# Altium integrated library NSC Amplifier.IntLib: 737 symbols (part 5 of 19)
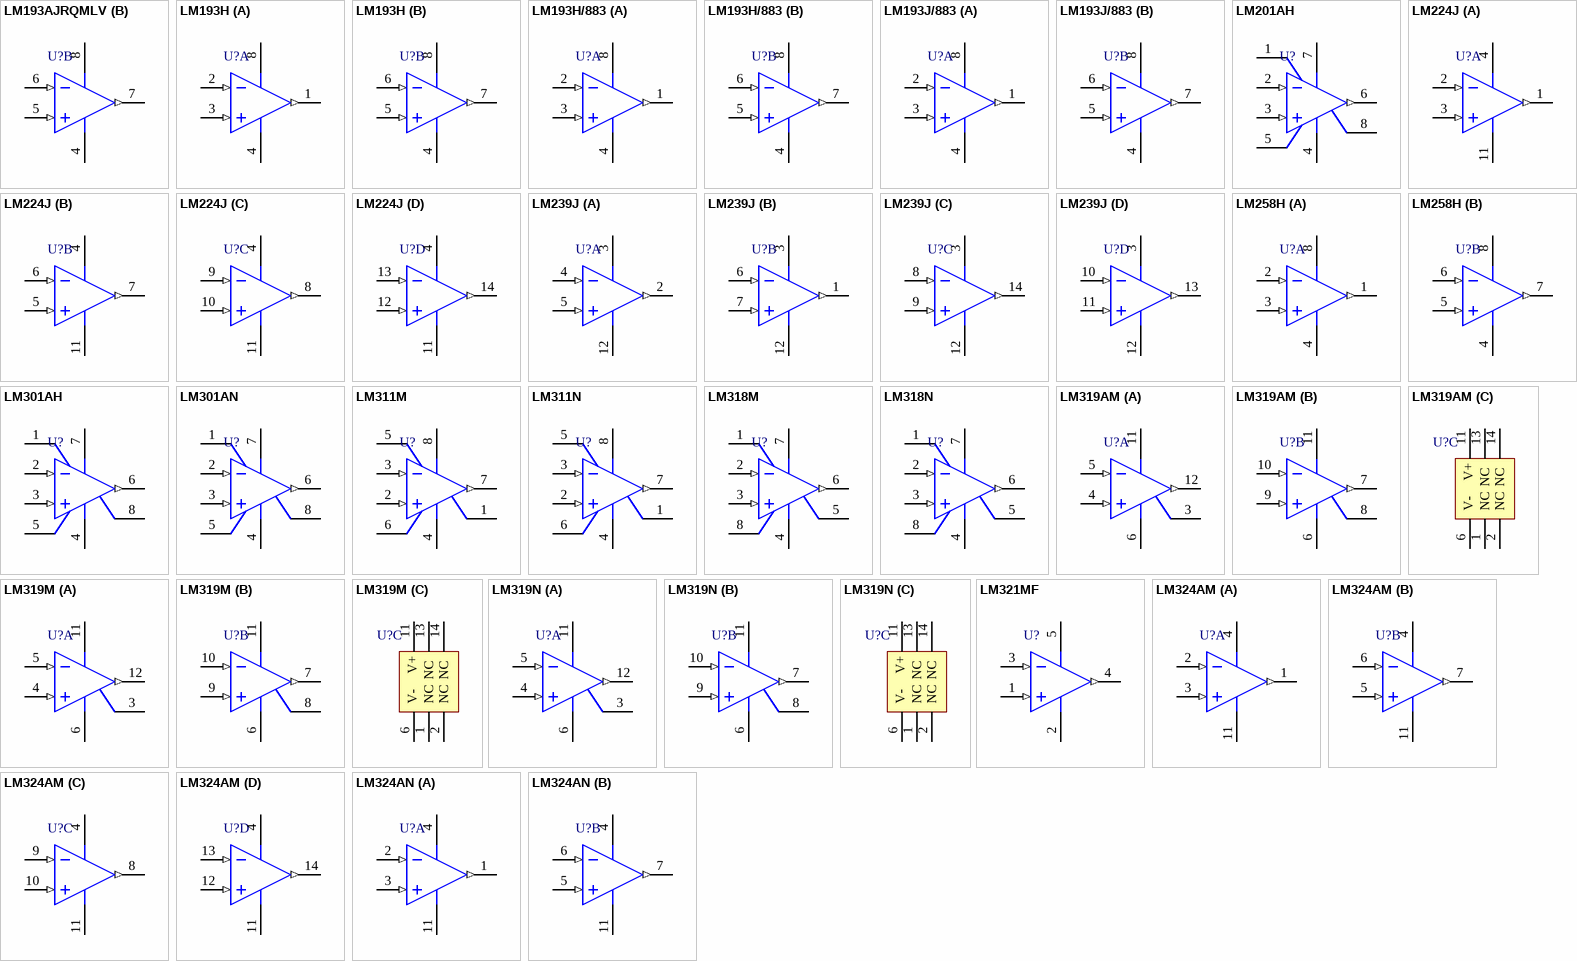
[diagram p43: symbols LM193AJRQMLV to LM324AN]

## LM319AM
designator U?
High Speed Dual Comparator; PartNumber: LM319AM; Manufacturer: National Semiconductor; CompType: Amplifiers; PackageTopMarking: NSUZXYTT*LM319AM; PowerWise: N; Published: 4-Dec-2008; DatasheetVersion: Aug-2000; PackageVersion: revJ, Jan-1996; PackageReference: M14A; Publisher: Altium Limited; PackageDescription: Molded Package S.O., .150in Wide, 14 Lead; RoHS: O; PinCount: 14; DigiKeyPartNumber: LM319AMX-ND; Code_JEDEC: MS-012AB; Code_IPC: SOIC127P600-14; ComponentLink1Description: LM319 Datasheet; ComponentLink1URL: http://www.national.com/ds/LM/LM319.pdf; ComponentLink2Description: LM319 Web Page; ComponentLink2URL: http://www.national.com/pf/LM/LM319.html; ComponentLink3Description: M14A Package Page; ComponentLink3URL: http://www.national.com/packaging/folders/m14a.html
footprint M14A_N (SOIC, 14-Leads, Body 8.6x3.9mm, Pitch 1.27mm, IPC Medium Density)
footprint M14A_L (SOIC, 14-Leads, Body 8.6x3.9mm, Pitch 1.27mm, IPC High Density)
footprint M14A_M (SOIC, 14-Leads, Body 8.6x3.9mm, Pitch 1.27mm, IPC Low Density)
pins on every part: 6 V- (power), 11 V+ (power)
part A pins: 3 GND1 (power), 4 IN1+ (in), 5 IN1- (in), 12 OUT1 (out)
part B pins: 7 OUT2 (out), 8 GND2 (power), 9 IN2+ (in), 10 IN2- (in)
part C pins: 1 NC, 2 NC, 13 NC, 14 NC

## LM319M
designator U?
High Speed Dual Comparator; PartNumber: LM319M; Manufacturer: National Semiconductor; CompType: Amplifiers; PackageTopMarking: NSUZXYTT*LM319M; PowerWise: N; Published: 4-Dec-2008; DatasheetVersion: Aug-2000; PackageVersion: revJ, Jan-1996; PackageReference: M14A; Publisher: Altium Limited; PackageDescription: Molded Package S.O., .150in Wide, 14 Lead; RoHS: O; PinCount: 14; DigiKeyPartNumber: LM319M-ND; Code_JEDEC: MS-012AB; Code_IPC: SOIC127P600-14; ComponentLink1Description: LM319 Datasheet; ComponentLink1URL: http://www.national.com/ds/LM/LM319.pdf; ComponentLink2Description: LM319 Web Page; ComponentLink2URL: http://www.national.com/pf/LM/LM319.html; ComponentLink3Description: M14A Package Page; ComponentLink3URL: http://www.national.com/packaging/folders/m14a.html
footprint M14A_N (SOIC, 14-Leads, Body 8.6x3.9mm, Pitch 1.27mm, IPC Medium Density)
footprint M14A_L (SOIC, 14-Leads, Body 8.6x3.9mm, Pitch 1.27mm, IPC High Density)
footprint M14A_M (SOIC, 14-Leads, Body 8.6x3.9mm, Pitch 1.27mm, IPC Low Density)
pins on every part: 6 V- (power), 11 V+ (power)
part A pins: 3 GND1 (power), 4 IN1+ (in), 5 IN1- (in), 12 OUT1 (out)
part B pins: 7 OUT2 (out), 8 GND2 (power), 9 IN2+ (in), 10 IN2- (in)
part C pins: 1 NC, 2 NC, 13 NC, 14 NC

## LM319N
designator U?
High Speed Dual Comparator; PartNumber: LM319N; Manufacturer: National Semiconductor; CompType: Amplifiers; PackageTopMarking: NSUZXYYTTE#*LM319N; PowerWise: N; Published: 4-Dec-2008; DatasheetVersion: Aug-2000; PackageVersion: revG, May-2006; PackageReference: N14A; Publisher: Altium Limited; PackageDescription: MDIP, .750 x .250 x.130in, 14 Lead, .100in Pitch; RoHS: O; PinCount: 14; DigiKeyPartNumber: LM319NNS-ND; Code_JEDEC: MS-001-AA; ComponentLink1Description: LM319 Datasheet; ComponentLink1URL: http://www.national.com/ds/LM/LM319.pdf; ComponentLink2Description: LM319 Web Page; ComponentLink2URL: http://www.national.com/pf/LM/LM319.html; ComponentLink3Description: N14A Package Page; ComponentLink3URL: http://www.national.com/packaging/folders/n14a.html
footprint N14A (DIP, 14-Leads, Row Spacing 7.62mm, Pitch 2.54mm, Body 19.56x6.35mm)
pins on every part: 6 V- (power), 11 V+ (power)
part A pins: 3 GND1 (power), 4 IN1+ (in), 5 IN1- (in), 12 OUT1 (out)
part B pins: 7 OUT2 (out), 8 GND2 (power), 9 IN2+ (in), 10 IN2- (in)
part C pins: 1 NC, 2 NC, 13 NC, 14 NC

## LM321MF
designator U?
Low Power Single Op Amp; PartNumber: LM321MF; Manufacturer: National Semiconductor; CompType: Amplifiers; PackageTopMarking: A63A*XTT; PowerWise: N; Published: 4-Dec-2008; LatestRevisionDate: 13-Jan-2009; LatestRevisionNote: Sim Model Added.; DatasheetVersion: Apr-2001; PackageVersion: revD, Aug-2008; PackageReference: MF05A; Publisher: Altium Limited; PackageDescription: Molded SOT-23, .115 x .063 x .040 in Body, 5 Lead, .0375 in Pitch; RoHS: O; PinCount: 5; DigiKeyPartNumber: LM321MFCT-ND; Code_IPC: SOT23-5; ComponentLink1Description: LM321 Datasheet; ComponentLink1URL: http://www.national.com/ds/LM/LM321.pdf; ComponentLink2Description: LM321 Web Page; ComponentLink2URL: http://www.national.com/pf/LM/LM321.html; ComponentLink3Description: MF05A Package Page; ComponentLink3URL: http://www.national.com/packaging/folders/mf05a.html
footprint MF05A_N (SOT23, 5-Leads, Body 2.9x1.6mm, Pitch 0.95mm, Lead Span 2.8mm, IPC Medium Density)
footprint MF05A_L (SOT23, 5-Leads, Body 2.9x1.6mm, Pitch 0.95mm, Lead Span 2.8mm, IPC High Density)
footprint MF05A_M (SOT23, 5-Leads, Body 2.9x1.6mm, Pitch 0.95mm, Lead Span 2.8mm, IPC Low Density)
simulation model LM324 (SUBCKT)
pins: 1 IN+ (in), 2 V- (power), 3 IN- (in), 4 OUT (out), 5 V+ (power)

## LM324AM
designator U?
Low Power Quad Operational Amplifier; PartNumber: LM324AM; Manufacturer: National Semiconductor; CompType: Amplifiers; PackageTopMarking: NSUZXYTT*LM324AM; PowerWise: N; Published: 4-Dec-2008; LatestRevisionDate: 13-Jan-2009; LatestRevisionNote: Sim Model Added.; DatasheetVersion: Aug-2000; PackageVersion: revJ, Jan-1996; PackageReference: M14A; Publisher: Altium Limited; PackageDescription: Molded Package S.O., .150in Wide, 14 Lead; RoHS: O; PinCount: 14; DigiKeyPartNumber: LM324AMXCT-ND; Code_JEDEC: MS-012AB; Code_IPC: SOIC127P600-14; ComponentLink1Description: LM324 Datasheet; ComponentLink1URL: http://www.national.com/ds/LM/LM324.pdf; ComponentLink2Description: LM324 Web Page; ComponentLink2URL: http://www.national.com/pf/LM/LM324.html; ComponentLink3Description: M14A Package Page; ComponentLink3URL: http://www.national.com/packaging/folders/m14a.html
footprint M14A_N (SOIC, 14-Leads, Body 8.6x3.9mm, Pitch 1.27mm, IPC Medium Density)
footprint M14A_L (SOIC, 14-Leads, Body 8.6x3.9mm, Pitch 1.27mm, IPC High Density)
footprint M14A_M (SOIC, 14-Leads, Body 8.6x3.9mm, Pitch 1.27mm, IPC Low Density)
simulation model LM324 (SUBCKT)
pins on every part: 4 V+ (power), 11 GND (power)
part A pins: 1 OUT1 (out), 2 IN1- (in), 3 IN1+ (in)
part B pins: 5 IN2+ (in), 6 IN2- (in), 7 OUT2 (out)
part C pins: 8 OUT3 (out), 9 IN3- (in), 10 IN3+ (in)
part D pins: 12 IN4+ (in), 13 IN4- (in), 14 OUT4 (out)

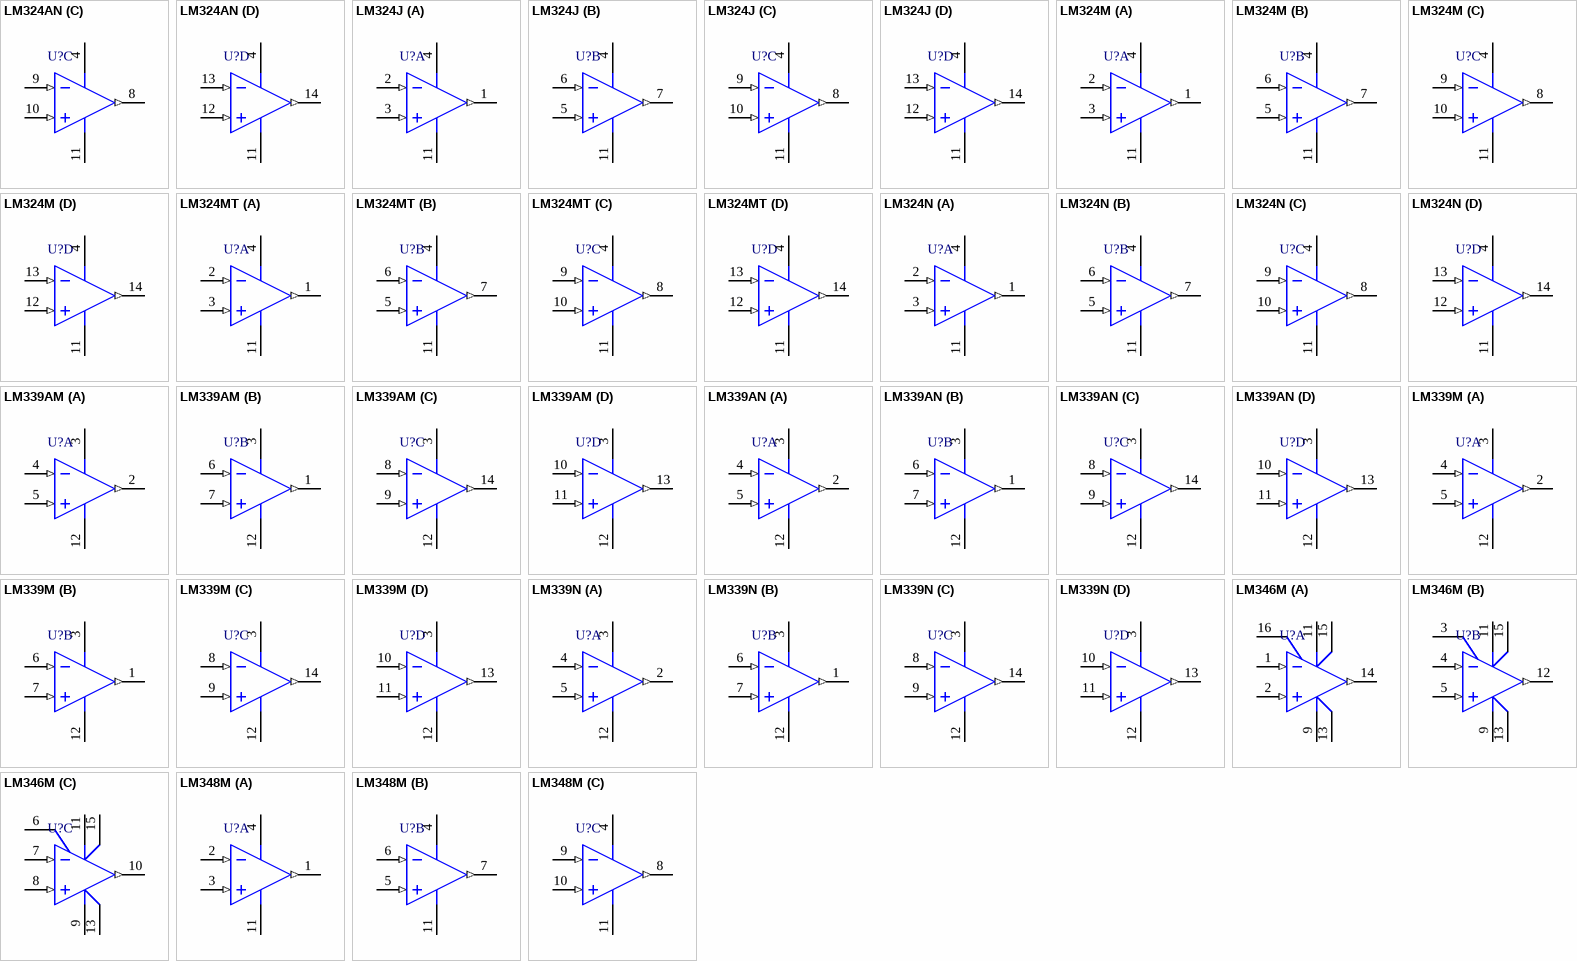
[diagram p11: symbols LM324AN to LM348M]

## LM324AN
designator U?
Low Power Quad Operational Amplifier; PartNumber: LM324AN; Manufacturer: National Semiconductor; CompType: Amplifiers; PackageTopMarking: NSUZXYYTTE#*LM324AN; PowerWise: N; Published: 4-Dec-2008; LatestRevisionDate: 13-Jan-2009; LatestRevisionNote: Sim Model Added.; DatasheetVersion: Aug-2000; PackageVersion: revG, May-2006; PackageReference: N14A; Publisher: Altium Limited; PackageDescription: MDIP, .750 x .250 x.130in, 14 Lead, .100in Pitch; RoHS: O; PinCount: 14; DigiKeyPartNumber: LM324ANNS-ND; Code_JEDEC: MS-001-AA; ComponentLink1Description: LM324 Datasheet; ComponentLink1URL: http://www.national.com/ds/LM/LM324.pdf; ComponentLink2Description: LM324 Web Page; ComponentLink2URL: http://www.national.com/pf/LM/LM324.html; ComponentLink3Description: N14A Package Page; ComponentLink3URL: http://www.national.com/packaging/folders/n14a.html
footprint N14A (DIP, 14-Leads, Row Spacing 7.62mm, Pitch 2.54mm, Body 19.56x6.35mm)
simulation model LM324 (SUBCKT)
pins on every part: 4 V+ (power), 11 GND (power)
part A pins: 1 OUT1 (out), 2 IN1- (in), 3 IN1+ (in)
part B pins: 5 IN2+ (in), 6 IN2- (in), 7 OUT2 (out)
part C pins: 8 OUT3 (out), 9 IN3- (in), 10 IN3+ (in)
part D pins: 12 IN4+ (in), 13 IN4- (in), 14 OUT4 (out)

## LM324J
designator U?
Low Power Quad Operational Amplifier; PartNumber: LM324J; Manufacturer: National Semiconductor; CompType: Amplifiers; PackageTopMarking: NSUZXYYTT*LM324J; PowerWise: N; Published: 4-Dec-2008; DatasheetVersion: Aug-2000; PackageVersion: revJ, Jul-2002; PackageReference: J14A; Publisher: Altium Limited; PackageDescription: Cerdip, .400 x .310in Body, 14 Lead, .300in Centers, .100in Pitch; RoHS: N; PinCount: 14; DigiKeyPartNumber: LM324J-ND; ComponentLink1Description: LM324 Datasheet; ComponentLink1URL: http://www.national.com/ds/LM/LM324.pdf; ComponentLink2Description: LM324 Web Page; ComponentLink2URL: http://www.national.com/pf/LM/LM324.html; ComponentLink3Description: J14A Package Page; ComponentLink3URL: http://www.national.com/packaging/folders/j14a.html
footprint J14A (DIP, 14-Leads, Row Spacing 7.62mm, Pitch 2.54mm, Body 19.56x6.73mm)
pins on every part: 4 V+ (power), 11 GND (power)
part A pins: 1 OUT1 (out), 2 IN1- (in), 3 IN1+ (in)
part B pins: 5 IN2+ (in), 6 IN2- (in), 7 OUT2 (out)
part C pins: 8 OUT3 (out), 9 IN3- (in), 10 IN3+ (in)
part D pins: 12 IN4+ (in), 13 IN4- (in), 14 OUT4 (out)

## LM324M
designator U?
Low Power Quad Operational Amplifier; PartNumber: LM324M; Manufacturer: National Semiconductor; CompType: Amplifiers; PackageTopMarking: NSUZXYTT*LM324M; PowerWise: N; Published: 4-Dec-2008; LatestRevisionDate: 13-Jan-2009; LatestRevisionNote: Sim Model Added.; DatasheetVersion: Aug-2000; PackageVersion: revJ, Jan-1996; PackageReference: M14A; Publisher: Altium Limited; PackageDescription: Molded Package S.O., .150in Wide, 14 Lead; RoHS: O; PinCount: 14; DigiKeyPartNumber: LM324MXCT-ND; Code_JEDEC: MS-012AB; Code_IPC: SOIC127P600-14; ComponentLink1Description: LM324 Datasheet; ComponentLink1URL: http://www.national.com/ds/LM/LM324.pdf; ComponentLink2Description: LM324 Web Page; ComponentLink2URL: http://www.national.com/pf/LM/LM324.html; ComponentLink3Description: M14A Package Page; ComponentLink3URL: http://www.national.com/packaging/folders/m14a.html
footprint M14A_N (SOIC, 14-Leads, Body 8.6x3.9mm, Pitch 1.27mm, IPC Medium Density)
footprint M14A_L (SOIC, 14-Leads, Body 8.6x3.9mm, Pitch 1.27mm, IPC High Density)
footprint M14A_M (SOIC, 14-Leads, Body 8.6x3.9mm, Pitch 1.27mm, IPC Low Density)
simulation model LM324 (SUBCKT)
pins on every part: 4 V+ (power), 11 GND (power)
part A pins: 1 OUT1 (out), 2 IN1- (in), 3 IN1+ (in)
part B pins: 5 IN2+ (in), 6 IN2- (in), 7 OUT2 (out)
part C pins: 8 OUT3 (out), 9 IN3- (in), 10 IN3+ (in)
part D pins: 12 IN4+ (in), 13 IN4- (in), 14 OUT4 (out)

## LM324MT
designator U?
Low Power Quad Operational Amplifier; PartNumber: LM324MT; Manufacturer: National Semiconductor; CompType: Amplifiers; PackageTopMarking: NSZXYTT*LM324*MT; PowerWise: N; Published: 4-Dec-2008; LatestRevisionDate: 13-Jan-2009; LatestRevisionNote: Sim Model Added.; DatasheetVersion: Aug-2000; PackageVersion: revD, Jun-2003; PackageReference: MTC14; Publisher: Altium Limited; PackageDescription: Molded TSSOP, JEDEC, 5 x 4.4 x 0.9mm Body, 14 Lead, 0.65mm Pitch; RoHS: Y; PinCount: 14; DigiKeyPartNumber: LM324MT-ND; Code_JEDEC: MO-153-AB-1; ComponentLink1Description: LM324 Datasheet; ComponentLink1URL: http://www.national.com/ds/LM/LM324.pdf; ComponentLink2Description: LM324 Web Page; ComponentLink2URL: http://www.national.com/pf/LM/LM324.html; ComponentLink3Description: MTC14 Package Page; ComponentLink3URL: http://www.national.com/packaging/folders/mtc14.html
footprint MTC14_N (TSOP, 14-Leads, Body 5x4.4mm, Pitch 0.65mm, IPC Medium Density)
footprint MTC14_L (TSOP, 14-Leads, Body 5x4.4mm, Pitch 0.65mm, IPC High Density)
footprint MTC14_M (TSOP, 14-Leads, Body 5x4.4mm, Pitch 0.65mm, IPC Low Density)
simulation model LM324 (SUBCKT)
pins on every part: 4 V+ (power), 11 GND (power)
part A pins: 1 OUT1 (out), 2 IN1- (in), 3 IN1+ (in)
part B pins: 5 IN2+ (in), 6 IN2- (in), 7 OUT2 (out)
part C pins: 8 OUT3 (out), 9 IN3- (in), 10 IN3+ (in)
part D pins: 12 IN4+ (in), 13 IN4- (in), 14 OUT4 (out)

## LM324N
designator U?
Low Power Quad Operational Amplifier; PartNumber: LM324N; Manufacturer: National Semiconductor; CompType: Amplifiers; PackageTopMarking: NSUZXYYTTE#*LM324N; PowerWise: N; Published: 4-Dec-2008; LatestRevisionDate: 13-Jan-2009; LatestRevisionNote: Sim Model Added.; DatasheetVersion: Aug-2000; PackageVersion: revG, May-2006; PackageReference: N14A; Publisher: Altium Limited; PackageDescription: MDIP, .750 x .250 x.130in, 14 Lead, .100in Pitch; RoHS: O; PinCount: 14; DigiKeyPartNumber: LM324NNS-ND; Code_JEDEC: MS-001-AA; ComponentLink1Description: LM324 Datasheet; ComponentLink1URL: http://www.national.com/ds/LM/LM324.pdf; ComponentLink2Description: LM324 Web Page; ComponentLink2URL: http://www.national.com/pf/LM/LM324.html; ComponentLink3Description: N14A Package Page; ComponentLink3URL: http://www.national.com/packaging/folders/n14a.html
footprint N14A (DIP, 14-Leads, Row Spacing 7.62mm, Pitch 2.54mm, Body 19.56x6.35mm)
simulation model LM324 (SUBCKT)
pins on every part: 4 V+ (power), 11 GND (power)
part A pins: 1 OUT1 (out), 2 IN1- (in), 3 IN1+ (in)
part B pins: 5 IN2+ (in), 6 IN2- (in), 7 OUT2 (out)
part C pins: 8 OUT3 (out), 9 IN3- (in), 10 IN3+ (in)
part D pins: 12 IN4+ (in), 13 IN4- (in), 14 OUT4 (out)

## LM339AM
designator U?
Low Power Low Offset Voltage Quad Comparator; PartNumber: LM339AM; Manufacturer: National Semiconductor; CompType: Amplifiers; PackageTopMarking: NSUZXYTT*LM339AM; PowerWise: N; Published: 4-Dec-2008; DatasheetVersion: Mar-2004; PackageVersion: revJ, Jan-1996; PackageReference: M14A; Publisher: Altium Limited; PackageDescription: Molded Package S.O., .150in Wide, 14 Lead; RoHS: O; PinCount: 14; DigiKeyPartNumber: LM339AMXCT-ND; Code_JEDEC: MS-012AB; Code_IPC: SOIC127P600-14; ComponentLink1Description: LM339 Datasheet; ComponentLink1URL: http://www.national.com/ds/LM/LM339.pdf; ComponentLink2Description: LM339 Web Page; ComponentLink2URL: http://www.national.com/pf/LM/LM339.html; ComponentLink3Description: M14A Package Page; ComponentLink3URL: http://www.national.com/packaging/folders/m14a.html
footprint M14A_N (SOIC, 14-Leads, Body 8.6x3.9mm, Pitch 1.27mm, IPC Medium Density)
footprint M14A_L (SOIC, 14-Leads, Body 8.6x3.9mm, Pitch 1.27mm, IPC High Density)
footprint M14A_M (SOIC, 14-Leads, Body 8.6x3.9mm, Pitch 1.27mm, IPC Low Density)
pins on every part: 3 V+ (power), 12 GND (power)
part A pins: 2 OUT1 (out), 4 IN1- (in), 5 IN1+ (in)
part B pins: 1 OUT2 (out), 6 IN2- (in), 7 IN2+ (in)
part C pins: 8 IN3- (in), 9 IN3+ (in), 14 OUT3 (out)
part D pins: 10 IN4- (in), 11 IN4+ (in), 13 OUT4 (out)

## LM339AN
designator U?
Low Power Low Offset Voltage Quad Comparator; PartNumber: LM339AN; Manufacturer: National Semiconductor; CompType: Amplifiers; PackageTopMarking: NSUZXYYTTE#*LM339AN; PowerWise: N; Published: 4-Dec-2008; DatasheetVersion: Mar-2004; PackageVersion: revG, May-2006; PackageReference: N14A; Publisher: Altium Limited; PackageDescription: MDIP, .750 x .250 x.130in, 14 Lead, .100in Pitch; RoHS: O; PinCount: 14; DigiKeyPartNumber: LM339ANNS-ND; Code_JEDEC: MS-001-AA; ComponentLink1Description: LM339 Datasheet; ComponentLink1URL: http://www.national.com/ds/LM/LM339.pdf; ComponentLink2Description: LM339 Web Page; ComponentLink2URL: http://www.national.com/pf/LM/LM339.html; ComponentLink3Description: N14A Package Page; ComponentLink3URL: http://www.national.com/packaging/folders/n14a.html
footprint N14A (DIP, 14-Leads, Row Spacing 7.62mm, Pitch 2.54mm, Body 19.56x6.35mm)
pins on every part: 3 V+ (power), 12 GND (power)
part A pins: 2 OUT1 (out), 4 IN1- (in), 5 IN1+ (in)
part B pins: 1 OUT2 (out), 6 IN2- (in), 7 IN2+ (in)
part C pins: 8 IN3- (in), 9 IN3+ (in), 14 OUT3 (out)
part D pins: 10 IN4- (in), 11 IN4+ (in), 13 OUT4 (out)

## LM339M
designator U?
Low Power Low Offset Voltage Quad Comparator; PartNumber: LM339M; Manufacturer: National Semiconductor; CompType: Amplifiers; PackageTopMarking: NSUZXYTT*LM339M; PowerWise: N; Published: 4-Dec-2008; DatasheetVersion: Mar-2004; PackageVersion: revJ, Jan-1996; PackageReference: M14A; Publisher: Altium Limited; PackageDescription: Molded Package S.O., .150in Wide, 14 Lead; RoHS: O; PinCount: 14; DigiKeyPartNumber: LM339MXCT-ND; Code_JEDEC: MS-012AB; Code_IPC: SOIC127P600-14; ComponentLink1Description: LM339 Datasheet; ComponentLink1URL: http://www.national.com/ds/LM/LM339.pdf; ComponentLink2Description: LM339 Web Page; ComponentLink2URL: http://www.national.com/pf/LM/LM339.html; ComponentLink3Description: M14A Package Page; ComponentLink3URL: http://www.national.com/packaging/folders/m14a.html
footprint M14A_N (SOIC, 14-Leads, Body 8.6x3.9mm, Pitch 1.27mm, IPC Medium Density)
footprint M14A_L (SOIC, 14-Leads, Body 8.6x3.9mm, Pitch 1.27mm, IPC High Density)
footprint M14A_M (SOIC, 14-Leads, Body 8.6x3.9mm, Pitch 1.27mm, IPC Low Density)
pins on every part: 3 V+ (power), 12 GND (power)
part A pins: 2 OUT1 (out), 4 IN1- (in), 5 IN1+ (in)
part B pins: 1 OUT2 (out), 6 IN2- (in), 7 IN2+ (in)
part C pins: 8 IN3- (in), 9 IN3+ (in), 14 OUT3 (out)
part D pins: 10 IN4- (in), 11 IN4+ (in), 13 OUT4 (out)

## LM339N
designator U?
Low Power Low Offset Voltage Quad Comparator; PartNumber: LM339N; Manufacturer: National Semiconductor; CompType: Amplifiers; PackageTopMarking: NSUZXYYTTE#*LM339N; PowerWise: N; Published: 4-Dec-2008; DatasheetVersion: Mar-2004; PackageVersion: revG, May-2006; PackageReference: N14A; Publisher: Altium Limited; PackageDescription: MDIP, .750 x .250 x.130in, 14 Lead, .100in Pitch; RoHS: O; PinCount: 14; DigiKeyPartNumber: LM339NNS-ND; Code_JEDEC: MS-001-AA; ComponentLink1Description: LM339 Datasheet; ComponentLink1URL: http://www.national.com/ds/LM/LM339.pdf; ComponentLink2Description: LM339 Web Page; ComponentLink2URL: http://www.national.com/pf/LM/LM339.html; ComponentLink3Description: N14A Package Page; ComponentLink3URL: http://www.national.com/packaging/folders/n14a.html
footprint N14A (DIP, 14-Leads, Row Spacing 7.62mm, Pitch 2.54mm, Body 19.56x6.35mm)
pins on every part: 3 V+ (power), 12 GND (power)
part A pins: 2 OUT1 (out), 4 IN1- (in), 5 IN1+ (in)
part B pins: 1 OUT2 (out), 6 IN2- (in), 7 IN2+ (in)
part C pins: 8 IN3- (in), 9 IN3+ (in), 14 OUT3 (out)
part D pins: 10 IN4- (in), 11 IN4+ (in), 13 OUT4 (out)

## LM346M
designator U?
Programmable Quad Operational Amplifier; PartNumber: LM346M; Manufacturer: National Semiconductor; CompType: Amplifiers; PackageTopMarking: NSUZXYTT*LM346M; PowerWise: Y; Published: 4-Dec-2008; DatasheetVersion: Aug-2000; PackageVersion: revJ, Aug-1995; PackageReference: M16A; Publisher: Altium Limited; PackageDescription: Molded Package, SO, .150in Wide, 16 Lead; RoHS: O; PinCount: 16; DigiKeyPartNumber: LM346M-ND; Code_JEDEC: MS-012-AC; Code_IPC: SOIC127P600-16; ComponentLink1Description: LM346 Datasheet; ComponentLink1URL: http://www.national.com/ds/LM/LM346.pdf; ComponentLink2Description: LM346 Web Page; ComponentLink2URL: http://www.national.com/pf/LM/LM346.html; ComponentLink3Description: M16A Package Page; ComponentLink3URL: http://www.national.com/packaging/folders/m16a.html
footprint M16A_N (SOIC, 16-Leads, Body 9.9x3.9mm, Pitch 1.27mm, IPC Medium Density)
footprint M16A_L (SOIC, 16-Leads, Body 9.9x3.9mm, Pitch 1.27mm, IPC High Density)
footprint M16A_M (SOIC, 16-Leads, Body 9.9x3.9mm, Pitch 1.27mm, IPC Low Density)
pins on every part: 9 VS- (power), 11 VS+ (power), 13 VS- (power), 15 VS+ (power)
part A pins: 1 INA- (in), 2 INA+ (in), 14 OUTA (out), 16 ~{DIS A}
part B pins: 3 ~{DIS B}, 4 INB- (in), 5 INB+ (in), 12 OUTB (out)
part C pins: 6 ~{DIS C}, 7 INC- (in), 8 INC+ (in), 10 OUTC (out)

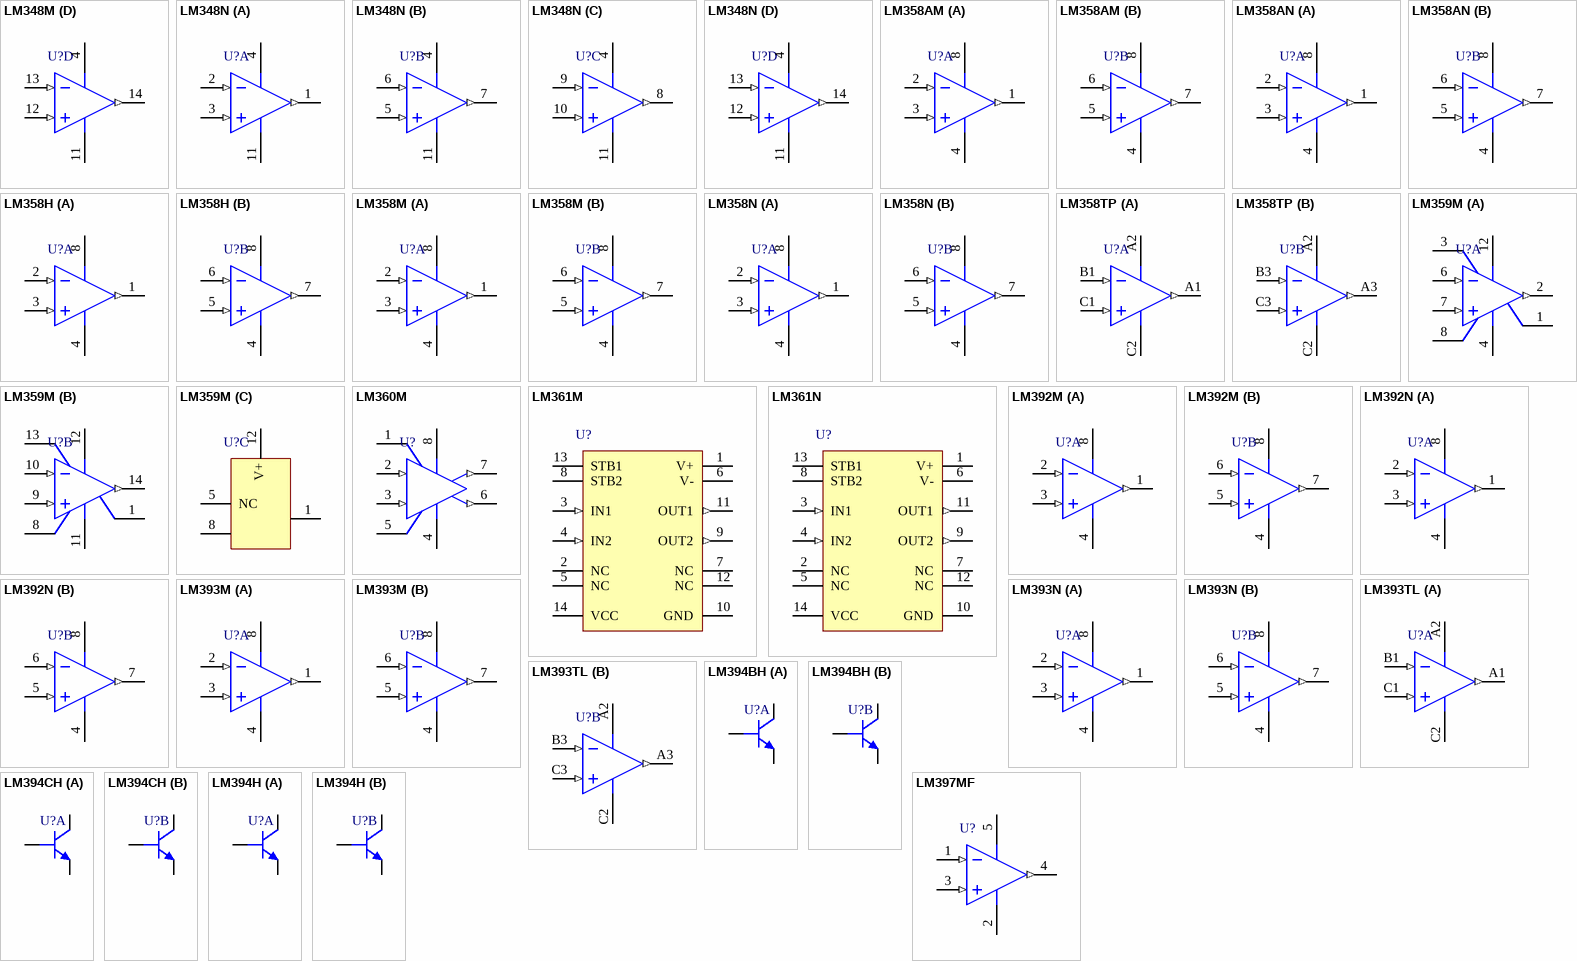
[diagram p12: symbols LM348M to LM397MF]

## LM348M
designator U?
Quad 741 Op Amp; PartNumber: LM348M; Manufacturer: National Semiconductor; CompType: Amplifiers; PackageTopMarking: NSUZXYTT*LM348M; PowerWise: N; Published: 4-Dec-2008; LatestRevisionDate: 13-Jan-2009; LatestRevisionNote: Sim Model Added.; DatasheetVersion: Nov-2003; PackageVersion: revJ, Jan-1996; PackageReference: M14A; Publisher: Altium Limited; PackageDescription: Molded Package S.O., .150in Wide, 14 Lead; RoHS: O; PinCount: 14; DigiKeyPartNumber: LM348M-ND; Code_JEDEC: MS-012AB; Code_IPC: SOIC127P600-14; ComponentLink1Description: LM348 Datasheet; ComponentLink1URL: http://www.national.com/ds/LM/LM348.pdf; ComponentLink2Description: LM348 Web Page; ComponentLink2URL: http://www.national.com/pf/LM/LM348.html; ComponentLink3Description: M14A Package Page; ComponentLink3URL: http://www.national.com/packaging/folders/m14a.html
footprint M14A_N (SOIC, 14-Leads, Body 8.6x3.9mm, Pitch 1.27mm, IPC Medium Density)
footprint M14A_L (SOIC, 14-Leads, Body 8.6x3.9mm, Pitch 1.27mm, IPC High Density)
footprint M14A_M (SOIC, 14-Leads, Body 8.6x3.9mm, Pitch 1.27mm, IPC Low Density)
simulation model LM741 (SUBCKT)
pins on every part: 4 V+ (power), 11 V- (power)
part A pins: 1 OUT1 (out), 2 IN1- (in), 3 IN1+ (in)
part B pins: 5 IN2+ (in), 6 IN2- (in), 7 OUT2 (out)
part C pins: 8 OUT3 (out), 9 IN3- (in), 10 IN3+ (in)
part D pins: 12 IN4+ (in), 13 IN4- (in), 14 OUT4 (out)

## LM348N
designator U?
Quad 741 Op Amp; PartNumber: LM348N; Manufacturer: National Semiconductor; CompType: Amplifiers; PackageTopMarking: NSUZXYYTTE#*LM348N; PowerWise: N; Published: 4-Dec-2008; LatestRevisionDate: 13-Jan-2009; LatestRevisionNote: Sim Model Added.; DatasheetVersion: Nov-2003; PackageVersion: revG, May-2006; PackageReference: N14A; Publisher: Altium Limited; PackageDescription: MDIP, .750 x .250 x.130in, 14 Lead, .100in Pitch; RoHS: O; PinCount: 14; DigiKeyPartNumber: LM348NNS-ND; Code_JEDEC: MS-001-AA; ComponentLink1Description: LM348 Datasheet; ComponentLink1URL: http://www.national.com/ds/LM/LM348.pdf; ComponentLink2Description: LM348 Web Page; ComponentLink2URL: http://www.national.com/pf/LM/LM348.html; ComponentLink3Description: N14A Package Page; ComponentLink3URL: http://www.national.com/packaging/folders/n14a.html
footprint N14A (DIP, 14-Leads, Row Spacing 7.62mm, Pitch 2.54mm, Body 19.56x6.35mm)
simulation model LM741 (SUBCKT)
pins on every part: 4 V+ (power), 11 V- (power)
part A pins: 1 OUT1 (out), 2 IN1- (in), 3 IN1+ (in)
part B pins: 5 IN2+ (in), 6 IN2- (in), 7 OUT2 (out)
part C pins: 8 OUT3 (out), 9 IN3- (in), 10 IN3+ (in)
part D pins: 12 IN4+ (in), 13 IN4- (in), 14 OUT4 (out)

## LM358AM
designator U?
Low Power Dual Operational Amplifier; PartNumber: LM358AM; Manufacturer: National Semiconductor; CompType: Amplifiers; PackageTopMarking: NSZXTT*LM*358AM; PowerWise: N; Published: 4-Dec-2008; LatestRevisionDate: 13-Jan-2009; LatestRevisionNote: Sim Model Added.; DatasheetVersion: Oct-2005; PackageVersion: revL, Sep-2006; PackageReference: M08A; Publisher: Altium Limited; PackageDescription: SOIC Narrow, 4.9 x 3.9 x 1.45mm, 8 Lead, 1.27mm Pitch; RoHS: O; PinCount: 8; DigiKeyPartNumber: LM358AMXCT-ND; Code_JEDEC: MS-012-AA; Code_IPC: SOIC127P600-8; ComponentLink1Description: LM358 Datasheet; ComponentLink1URL: http://www.national.com/ds/LM/LM358.pdf; ComponentLink2Description: LM358 Web Page; ComponentLink2URL: http://www.national.com/pf/LM/LM358.html; ComponentLink3Description: M08A Package Page; ComponentLink3URL: http://www.national.com/packaging/folders/m08a.html
footprint M08A_N (SOIC, 8-Leads, Body 4.9x3.9mm, Pitch 1.27mm, IPC Medium Density)
footprint M08A_L (SOIC, 8-Leads, Body 4.9x3.9mm, Pitch 1.27mm, IPC High Density)
footprint M08A_M (SOIC, 8-Leads, Body 4.9x3.9mm, Pitch 1.27mm, IPC Low Density)
simulation model LM358 (SUBCKT)
pins on every part: 4 GND (power), 8 V+ (power)
part A pins: 1 OUTA (out), 2 INA- (in), 3 INA+ (in)
part B pins: 5 INB+ (in), 6 INB- (in), 7 OUTB (out)

## LM358AN
designator U?
Low Power Dual Operational Amplifier; PartNumber: LM358AN; Manufacturer: National Semiconductor; CompType: Amplifiers; PackageTopMarking: NSUZXYTT*LM*358AN; PowerWise: N; Published: 4-Dec-2008; LatestRevisionDate: 13-Jan-2009; LatestRevisionNote: Sim Model Added.; DatasheetVersion: Oct-2005; PackageVersion: revG, May-2006; PackageReference: N08E; Publisher: Altium Limited; PackageDescription: MDIP, .365 x .250 x .130in, 8 Lead, .100in Pitch; RoHS: O; PinCount: 8; DigiKeyPartNumber: LM358ANNS-ND; Code_JEDEC: MS-001-BA; ComponentLink1Description: LM358 Datasheet; ComponentLink1URL: http://www.national.com/ds/LM/LM358.pdf; ComponentLink2Description: LM358 Web Page; ComponentLink2URL: http://www.national.com/pf/LM/LM358.html; ComponentLink3Description: N08E Package Page; ComponentLink3URL: http://www.national.com/packaging/folders/n08e.html
footprint N08E (DIP, 8-Leads, Row Spacing 7.62mm, Pitch 2.54mm, Body 9.91x6.35mm)
simulation model LM358 (SUBCKT)
pins on every part: 4 GND (power), 8 V+ (power)
part A pins: 1 OUTA (out), 2 INA- (in), 3 INA+ (in)
part B pins: 5 INB+ (in), 6 INB- (in), 7 OUTB (out)

## LM358H
designator U?
Low Power Dual Operational Amplifier; PartNumber: LM358H; Manufacturer: National Semiconductor; CompType: Amplifiers; PackageTopMarking: NSZXYTTE# LM358H; PowerWise: N; Published: 4-Dec-2008; DatasheetVersion: Oct-2005; PackageVersion: revF, Jun-1995; PackageReference: H08C; Publisher: Altium Limited; PackageDescription: Metal Can, TO-99, 8 Lead, .200 Dia., P.C.; RoHS: O; PinCount: 8; Code_JEDEC: TO-99; ComponentLink1Description: LM358 Datasheet; ComponentLink1URL: http://www.national.com/ds/LM/LM358.pdf; ComponentLink2Description: LM358 Web Page; ComponentLink2URL: http://www.national.com/pf/LM/LM358.html; ComponentLink3Description: H08C Package Page; ComponentLink3URL: http://www.national.com/packaging/folders/h08c.html
footprint H08C (Can; 8 Leads; Pin Circle Dia. 5.08 mm; Lead Dia. 0.48 mm (max))
pins on every part: 4 GND (power), 8 V+ (power)
part A pins: 1 OUTA (out), 2 INA- (in), 3 INA+ (in)
part B pins: 5 INB+ (in), 6 INB- (in), 7 OUTB (out)

## LM358M
designator U?
Low Power Dual Operational Amplifier; PartNumber: LM358M; Manufacturer: National Semiconductor; CompType: Amplifiers; PackageTopMarking: NSZXTT*LM*358M; PowerWise: N; Published: 4-Dec-2008; LatestRevisionDate: 13-Jan-2009; LatestRevisionNote: Sim Model Added.; DatasheetVersion: Oct-2005; PackageVersion: revL, Sep-2006; PackageReference: M08A; Publisher: Altium Limited; PackageDescription: SOIC Narrow, 4.9 x 3.9 x 1.45mm, 8 Lead, 1.27mm Pitch; RoHS: O; PinCount: 8; DigiKeyPartNumber: LM358MXCT-ND; Code_JEDEC: MS-012-AA; Code_IPC: SOIC127P600-8; ComponentLink1Description: LM358 Datasheet; ComponentLink1URL: http://www.national.com/ds/LM/LM358.pdf; ComponentLink2Description: LM358 Web Page; ComponentLink2URL: http://www.national.com/pf/LM/LM358.html; ComponentLink3Description: M08A Package Page; ComponentLink3URL: http://www.national.com/packaging/folders/m08a.html
footprint M08A_N (SOIC, 8-Leads, Body 4.9x3.9mm, Pitch 1.27mm, IPC Medium Density)
footprint M08A_L (SOIC, 8-Leads, Body 4.9x3.9mm, Pitch 1.27mm, IPC High Density)
footprint M08A_M (SOIC, 8-Leads, Body 4.9x3.9mm, Pitch 1.27mm, IPC Low Density)
simulation model LM358 (SUBCKT)
pins on every part: 4 GND (power), 8 V+ (power)
part A pins: 1 OUTA (out), 2 INA- (in), 3 INA+ (in)
part B pins: 5 INB+ (in), 6 INB- (in), 7 OUTB (out)

## LM358N
designator U?
Low Power Dual Operational Amplifier; PartNumber: LM358N; Manufacturer: National Semiconductor; CompType: Amplifiers; PackageTopMarking: NSUZXYTT*LM*358N; PowerWise: N; Published: 4-Dec-2008; LatestRevisionDate: 13-Jan-2009; LatestRevisionNote: Sim Model Added.; DatasheetVersion: Oct-2005; PackageVersion: revG, May-2006; PackageReference: N08E; Publisher: Altium Limited; PackageDescription: MDIP, .365 x .250 x .130in, 8 Lead, .100in Pitch; RoHS: O; PinCount: 8; DigiKeyPartNumber: LM358NNS-ND; Code_JEDEC: MS-001-BA; ComponentLink1Description: LM358 Datasheet; ComponentLink1URL: http://www.national.com/ds/LM/LM358.pdf; ComponentLink2Description: LM358 Web Page; ComponentLink2URL: http://www.national.com/pf/LM/LM358.html; ComponentLink3Description: N08E Package Page; ComponentLink3URL: http://www.national.com/packaging/folders/n08e.html
footprint N08E (DIP, 8-Leads, Row Spacing 7.62mm, Pitch 2.54mm, Body 9.91x6.35mm)
simulation model LM358 (SUBCKT)
pins on every part: 4 GND (power), 8 V+ (power)
part A pins: 1 OUTA (out), 2 INA- (in), 3 INA+ (in)
part B pins: 5 INB+ (in), 6 INB- (in), 7 OUTB (out)

## LM358TP
designator U?
Low Power Dual Operational Amplifier; PartNumber: LM358TP; Manufacturer: National Semiconductor; CompType: Amplifiers; PackageTopMarking: XVA*I 07; PowerWise: N; Published: 4-Dec-2008; LatestRevisionDate: 13-Jan-2009; LatestRevisionNote: Sim Model Added.; DatasheetVersion: Oct-2005; PackageVersion: revA, Mar-2002; PackageReference: TPA08AAA; Publisher: Altium Limited; PackageDescription: Thin Micro SMD, 8 Bump, 0.5mm Pitch; RoHS: Y; PinCount: 8; DigiKeyPartNumber: LM358TPX-ND; Code_JEDEC: MO-211-BC; ComponentLink1Description: LM358 Datasheet; ComponentLink1URL: http://www.national.com/ds/LM/LM358.pdf; ComponentLink2Description: LM358 Web Page; ComponentLink2URL: http://www.national.com/pf/LM/LM358.html; ComponentLink3Description: TPA08AAA Package Page; ComponentLink3URL: http://www.national.com/packaging/folders/tpa08aaa.html
footprint TPA08AAA (Micro SMD, 8-Leads, Body 1.29x1.29mm, Pitch 0.5mm, NSC Recommended)
simulation model LM358 (SUBCKT)
pins on every part: A2 V+ (power), C2 GND (power)
part A pins: A1 OUTA (out), B1 INA- (in), C1 INA+ (in)
part B pins: A3 OUTB (out), B3 INB- (in), C3 INB+ (in)

## LM359M
designator U?
Dual, High Speed, Programmable, Current Mode (Norton) Amplifiers; PartNumber: LM359M; Manufacturer: National Semiconductor; PackageTopMarking: NSUZXYTT*LM359M; PowerWise: Y; Published: 4-Dec-2008; LatestRevisionDate: 13-Jan-2009; LatestRevisionNote: Sim Model Added.; DatasheetVersion: Aug-2000; PackageVersion: revJ, Jan-1996; PackageReference: M14A; Publisher: Altium Limited; PackageDescription: Molded Package S.O., .150in Wide, 14 Lead; CompType: Amplifiers; RoHS: O; PinCount: 14; DigiKeyPartNumber: LM359M-ND; Code_JEDEC: MS-012AB; Code_IPC: SOIC127P600-14; ComponentLink1Description: LM359 Datasheet; ComponentLink1URL: http://www.national.com/ds/LM/LM359.pdf; ComponentLink2Description: LM359 Web Page; ComponentLink2URL: http://www.national.com/pf/LM/LM359.html; ComponentLink3Description: M14A Package Page; ComponentLink3URL: http://www.national.com/packaging/folders/m14a.html
footprint M14A_N (SOIC, 14-Leads, Body 8.6x3.9mm, Pitch 1.27mm, IPC Medium Density)
footprint M14A_L (SOIC, 14-Leads, Body 8.6x3.9mm, Pitch 1.27mm, IPC High Density)
footprint M14A_M (SOIC, 14-Leads, Body 8.6x3.9mm, Pitch 1.27mm, IPC Low Density)
simulation model LM359 (SUBCKT)
pins on every part: 1 ISET(OUT), 8 ISET(IN), 12 V+ (power)
part A pins: 2 OUTA (out), 3 COMPA, 4 GNDA (power), 6 INA- (in), 7 INA+ (in)
part B pins: 9 INB+ (in), 10 INB- (in), 11 GNDB (power), 13 COMPB, 14 OUTB (out)
part C pins: 5 NC

## LM360M
designator U?
High Speed Differential Comparator; PartNumber: LM360M; Manufacturer: National Semiconductor; CompType: Amplifiers; PackageTopMarking: NSZXTT*LM*360M; PowerWise: N; Published: 4-Dec-2008; DatasheetVersion: Aug-2000; PackageVersion: revL, Sep-2006; PackageReference: M08A; Publisher: Altium Limited; PackageDescription: SOIC Narrow, 4.9 x 3.9 x 1.45mm, 8 Lead, 1.27mm Pitch; RoHS: O; PinCount: 8; DigiKeyPartNumber: LM360M-ND; Code_JEDEC: MS-012-AA; Code_IPC: SOIC127P600-8; ComponentLink1Description: LM360 Datasheet; ComponentLink1URL: http://www.national.com/ds/LM/LM360.pdf; ComponentLink2Description: LM360 Web Page; ComponentLink2URL: http://www.national.com/pf/LM/LM360.html; ComponentLink3Description: M08A Package Page; ComponentLink3URL: http://www.national.com/packaging/folders/m08a.html
footprint M08A_N (SOIC, 8-Leads, Body 4.9x3.9mm, Pitch 1.27mm, IPC Medium Density)
footprint M08A_L (SOIC, 8-Leads, Body 4.9x3.9mm, Pitch 1.27mm, IPC High Density)
footprint M08A_M (SOIC, 8-Leads, Body 4.9x3.9mm, Pitch 1.27mm, IPC Low Density)
pins: 1 NC, 2 IN2 (in), 3 IN1 (in), 4 V- (power), 5 GND (power), 6 OUT2 (out), 7 OUT1 (out), 8 V+ (power)

## LM361M
designator U?
High Speed Differential Comparator; PartNumber: LM361M; Manufacturer: National Semiconductor; CompType: Amplifiers; PackageTopMarking: NSUZXYTT*LM361M; PowerWise: N; Published: 4-Dec-2008; DatasheetVersion: Aug-2000; PackageVersion: revJ, Jan-1996; PackageReference: M14A; Publisher: Altium Limited; PackageDescription: Molded Package S.O., .150in Wide, 14 Lead; RoHS: O; PinCount: 14; DigiKeyPartNumber: LM361M-ND; Code_JEDEC: MS-012AB; Code_IPC: SOIC127P600-14; ComponentLink1Description: LM361 Datasheet; ComponentLink1URL: http://www.national.com/ds/LM/LM361.pdf; ComponentLink2Description: LM361 Web Page; ComponentLink2URL: http://www.national.com/pf/LM/LM361.html; ComponentLink3Description: M14A Package Page; ComponentLink3URL: http://www.national.com/packaging/folders/m14a.html
footprint M14A_N (SOIC, 14-Leads, Body 8.6x3.9mm, Pitch 1.27mm, IPC Medium Density)
footprint M14A_L (SOIC, 14-Leads, Body 8.6x3.9mm, Pitch 1.27mm, IPC High Density)
footprint M14A_M (SOIC, 14-Leads, Body 8.6x3.9mm, Pitch 1.27mm, IPC Low Density)
pins: 1 V+ (power), 2 NC, 3 IN1 (in), 4 IN2 (in), 5 NC, 6 V- (power), 7 NC, 8 STB2 (power), 9 OUT2 (out), 10 GND (power), 11 OUT1 (out), 12 NC, 13 STB1 (power), 14 VCC (power)

## LM361N
designator U?
High Speed Differential Comparator; PartNumber: LM361N; Manufacturer: National Semiconductor; CompType: Amplifiers; PackageTopMarking: NSUZXYYTTE#*LM361N; PowerWise: N; Published: 4-Dec-2008; DatasheetVersion: Aug-2000; PackageVersion: revG, May-2006; PackageReference: N14A; Publisher: Altium Limited; PackageDescription: MDIP, .750 x .250 x.130in, 14 Lead, .100in Pitch; RoHS: O; PinCount: 14; DigiKeyPartNumber: LM361N-ND; Code_JEDEC: MS-001-AA; ComponentLink1Description: LM361 Datasheet; ComponentLink1URL: http://www.national.com/ds/LM/LM361.pdf; ComponentLink2Description: LM361 Web Page; ComponentLink2URL: http://www.national.com/pf/LM/LM361.html; ComponentLink3Description: N14A Package Page; ComponentLink3URL: http://www.national.com/packaging/folders/n14a.html
footprint N14A (DIP, 14-Leads, Row Spacing 7.62mm, Pitch 2.54mm, Body 19.56x6.35mm)
pins: 1 V+ (power), 2 NC, 3 IN1 (in), 4 IN2 (in), 5 NC, 6 V- (power), 7 NC, 8 STB2 (power), 9 OUT2 (out), 10 GND (power), 11 OUT1 (out), 12 NC, 13 STB1 (power), 14 VCC (power)

## LM392M
designator U?
Low Power Operational Amplifier/Voltage Comparator; PartNumber: LM392M; Manufacturer: National Semiconductor; CompType: Amplifiers; PackageTopMarking: NSZXTT*LM392*M; PowerWise: N; Published: 4-Dec-2008; LatestRevisionDate: 13-Jan-2009; LatestRevisionNote: Sim Model Added.; DatasheetVersion: Aug-2000; PackageVersion: revL, Sep-2006; PackageReference: M08A; Publisher: Altium Limited; PackageDescription: SOIC Narrow, 4.9 x 3.9 x 1.45mm, 8 Lead, 1.27mm Pitch; RoHS: O; PinCount: 8; DigiKeyPartNumber: LM392M-ND; Code_JEDEC: MS-012-AA; Code_IPC: SOIC127P600-8; ComponentLink1Description: LM392 Datasheet; ComponentLink1URL: http://www.national.com/ds/LM/LM392.pdf; ComponentLink2Description: LM392 Web Page; ComponentLink2URL: http://www.national.com/pf/LM/LM392.html; ComponentLink3Description: M08A Package Page; ComponentLink3URL: http://www.national.com/packaging/folders/m08a.html
footprint M08A_N (SOIC, 8-Leads, Body 4.9x3.9mm, Pitch 1.27mm, IPC Medium Density)
footprint M08A_L (SOIC, 8-Leads, Body 4.9x3.9mm, Pitch 1.27mm, IPC High Density)
footprint M08A_M (SOIC, 8-Leads, Body 4.9x3.9mm, Pitch 1.27mm, IPC Low Density)
simulation model LM324 (SUBCKT)
pins on every part: 4 GND (power), 8 V+ (power)
part A pins: 1 OUTA (out), 2 INA- (in), 3 INA+ (in)
part B pins: 5 INB+ (in), 6 INB- (in), 7 OUTB (out)

## LM392N
designator U?
Low Power Operational Amplifier/Voltage Comparator; PartNumber: LM392N; Manufacturer: National Semiconductor; CompType: Amplifiers; PackageTopMarking: NSUZXYTT*LM*392N; PowerWise: N; Published: 4-Dec-2008; LatestRevisionDate: 13-Jan-2009; LatestRevisionNote: Sim Model Added.; DatasheetVersion: Aug-2000; PackageVersion: revG, May-2006; PackageReference: N08E; Publisher: Altium Limited; PackageDescription: MDIP, .365 x .250 x .130in, 8 Lead, .100in Pitch; RoHS: O; PinCount: 8; DigiKeyPartNumber: LM392N-ND; Code_JEDEC: MS-001-BA; ComponentLink1Description: LM392 Datasheet; ComponentLink1URL: http://www.national.com/ds/LM/LM392.pdf; ComponentLink2Description: LM392 Web Page; ComponentLink2URL: http://www.national.com/pf/LM/LM392.html; ComponentLink3Description: N08E Package Page; ComponentLink3URL: http://www.national.com/packaging/folders/n08e.html
footprint N08E (DIP, 8-Leads, Row Spacing 7.62mm, Pitch 2.54mm, Body 9.91x6.35mm)
simulation model LM324 (SUBCKT)
pins on every part: 4 GND (power), 8 V+ (power)
part A pins: 1 OUTA (out), 2 INA- (in), 3 INA+ (in)
part B pins: 5 INB+ (in), 6 INB- (in), 7 OUTB (out)

## LM393M
designator U?
Low Power Low Offset Voltage Dual Comparator; PartNumber: LM393M; Manufacturer: National Semiconductor; CompType: Amplifiers; PackageTopMarking: NSZXTT*LM*393M; PowerWise: N; Published: 4-Dec-2008; DatasheetVersion: Aug-2002; PackageVersion: revL, Sep-2006; PackageReference: M08A; Publisher: Altium Limited; PackageDescription: SOIC Narrow, 4.9 x 3.9 x 1.45mm, 8 Lead, 1.27mm Pitch; RoHS: O; PinCount: 8; DigiKeyPartNumber: LM393MXCT-ND; Code_JEDEC: MS-012-AA; Code_IPC: SOIC127P600-8; ComponentLink1Description: LM393 Datasheet; ComponentLink1URL: http://www.national.com/ds/LM/LM393.pdf; ComponentLink2Description: LM393 Web Page; ComponentLink2URL: http://www.national.com/pf/LM/LM393.html; ComponentLink3Description: M08A Package Page; ComponentLink3URL: http://www.national.com/packaging/folders/m08a.html
footprint M08A_N (SOIC, 8-Leads, Body 4.9x3.9mm, Pitch 1.27mm, IPC Medium Density)
footprint M08A_L (SOIC, 8-Leads, Body 4.9x3.9mm, Pitch 1.27mm, IPC High Density)
footprint M08A_M (SOIC, 8-Leads, Body 4.9x3.9mm, Pitch 1.27mm, IPC Low Density)
pins on every part: 4 GND (power), 8 V+ (power)
part A pins: 1 OUTA (out), 2 INA- (in), 3 INA+ (in)
part B pins: 5 INB+ (in), 6 INB- (in), 7 OUTB (out)

## LM393N
designator U?
Low Power Low Offset Voltage Dual Comparator; PartNumber: LM393N; Manufacturer: National Semiconductor; CompType: Amplifiers; PackageTopMarking: NSUZXYTT*LM*393N; PowerWise: N; Published: 4-Dec-2008; DatasheetVersion: Aug-2002; PackageVersion: revG, May-2006; PackageReference: N08E; Publisher: Altium Limited; PackageDescription: MDIP, .365 x .250 x .130in, 8 Lead, .100in Pitch; RoHS: O; PinCount: 8; DigiKeyPartNumber: LM393NNS-ND; Code_JEDEC: MS-001-BA; ComponentLink1Description: LM393 Datasheet; ComponentLink1URL: http://www.national.com/ds/LM/LM393.pdf; ComponentLink2Description: LM393 Web Page; ComponentLink2URL: http://www.national.com/pf/LM/LM393.html; ComponentLink3Description: N08E Package Page; ComponentLink3URL: http://www.national.com/packaging/folders/n08e.html
footprint N08E (DIP, 8-Leads, Row Spacing 7.62mm, Pitch 2.54mm, Body 9.91x6.35mm)
pins on every part: 4 GND (power), 8 V+ (power)
part A pins: 1 OUTA (out), 2 INA- (in), 3 INA+ (in)
part B pins: 5 INB+ (in), 6 INB- (in), 7 OUTB (out)

## LM393TL
designator U?
Low Power Low Offset Voltage Dual Comparator; PartNumber: LM393TL; Manufacturer: National Semiconductor; CompType: Amplifiers; PackageTopMarking: XVC*I 02; PowerWise: N; Published: 4-Dec-2008; DatasheetVersion: Aug-2002; PackageVersion: revC, Jan-2004; PackageReference: TLA08AAA; Publisher: Altium Limited; PackageDescription: Thin Micro SMD, 8 Bump (Large), 0.5mm Pitch; RoHS: Y; PinCount: 8; DigiKeyPartNumber: LM393TL-ND; ComponentLink1Description: LM393 Datasheet; ComponentLink1URL: http://www.national.com/ds/LM/LM393.pdf; ComponentLink2Description: LM393 Web Page; ComponentLink2URL: http://www.national.com/pf/LM/LM393.html; ComponentLink3Description: TLA08AAA Package Page; ComponentLink3URL: http://www.national.com/packaging/folders/tla08aaa.html
footprint TLA08AAA (Micro SMD, 8-Leads, Body 1.52x1.52mm, Pitch 0.5mm, NSC Recommended)
pins on every part: A2 V+ (power), C2 GND (power)
part A pins: A1 OUTA (out), B1 INA- (in), C1 INA+ (in)
part B pins: A3 OUTB (out), B3 INB- (in), C3 INB+ (in)

## LM394BH
designator U?
Supermatch Pair; PartNumber: LM394BH; Manufacturer: National Semiconductor; CompType: Amplifiers; PackageTopMarking: NSZXYTTE# LM394BH; PowerWise: N; MilaeroCode: 2MC; Published: 4-Dec-2008; DatasheetVersion: Dec-1994; PackageVersion: revE, Jun-1995; PackageReference: H06C; Publisher: Altium Limited; PackageDescription: Metal Can, TO-99, 6 Lead, .200in Dia P.C.; RoHS: O; PinCount: 6; DigiKeyPartNumber: LM394BH-ND; Code_JEDEC: TO-99; ComponentLink1Description: LM394 Datasheet; ComponentLink1URL: http://www.national.com/ds/LM/LM394.pdf; ComponentLink2Description: LM394 Web Page; ComponentLink2URL: http://www.national.com/pf/LM/LM394.html; ComponentLink3Description: H06C package page; ComponentLink3URL: http://www.national.com/packaging/folders/h06c.html
footprint H06C (Can; 8 Leads (2 Absent); Pin Circle Dia. 5.08 mm; Lead Dia. 0.48 mm (max))
part A pins: 1 C, 2 B, 3 E
part B pins: 4 E, 5 B, 6 C

## LM394CH
designator U?
Supermatch Pair; PartNumber: LM394CH; Manufacturer: National Semiconductor; CompType: Amplifiers; PackageTopMarking: NSZXYTTE# LM394CH; PowerWise: N; MilaeroCode: 2MC; Published: 4-Dec-2008; DatasheetVersion: Dec-1994; PackageVersion: revE, Jun-1995; PackageReference: H06C; Publisher: Altium Limited; PackageDescription: Metal Can, TO-99, 6 Lead, .200in Dia P.C.; RoHS: O; PinCount: 6; DigiKeyPartNumber: LM394CH-ND; Code_JEDEC: TO-99; ComponentLink1Description: LM394 Datasheet; ComponentLink1URL: http://www.national.com/ds/LM/LM394.pdf; ComponentLink2Description: LM394 Web Page; ComponentLink2URL: http://www.national.com/pf/LM/LM394.html; ComponentLink3Description: H06C package page; ComponentLink3URL: http://www.national.com/packaging/folders/h06c.html
footprint H06C (Can; 8 Leads (2 Absent); Pin Circle Dia. 5.08 mm; Lead Dia. 0.48 mm (max))
part A pins: 1 C, 2 B, 3 E
part B pins: 4 E, 5 B, 6 C

## LM394H
designator U?
Supermatch Pair; PartNumber: LM394H; Manufacturer: National Semiconductor; CompType: Amplifiers; PackageTopMarking: NSZXYTTE# LM394H; PowerWise: N; MilaeroCode: 2MC; Published: 4-Dec-2008; DatasheetVersion: Dec-1994; PackageVersion: revE, Jun-1995; PackageReference: H06C; Publisher: Altium Limited; PackageDescription: Metal Can, TO-99, 6 Lead, .200in Dia P.C.; RoHS: O; PinCount: 6; DigiKeyPartNumber: LM394H-ND; Code_JEDEC: TO-99; ComponentLink1Description: LM394 Datasheet; ComponentLink1URL: http://www.national.com/ds/LM/LM394.pdf; ComponentLink2Description: LM394 Web Page; ComponentLink2URL: http://www.national.com/pf/LM/LM394.html; ComponentLink3Description: H06C package page; ComponentLink3URL: http://www.national.com/packaging/folders/h06c.html
footprint H06C (Can; 8 Leads (2 Absent); Pin Circle Dia. 5.08 mm; Lead Dia. 0.48 mm (max))
part A pins: 1 C, 2 B, 3 E
part B pins: 4 E, 5 B, 6 C

## LM397MF
designator U?
Single General Purpose Voltage Comparator; PartNumber: LM397MF; Manufacturer: National Semiconductor; CompType: Amplifiers; PackageTopMarking: C397*XTT; PowerWise: N; Published: 4-Dec-2008; DatasheetVersion: Aug-2006; PackageVersion: revD, Aug-2008; PackageReference: MF05A; Publisher: Altium Limited; PackageDescription: Molded SOT-23, .115 x .063 x .040 in Body, 5 Lead, .0375 in Pitch; RoHS: O; PinCount: 5; DigiKeyPartNumber: LM397MF-ND; Code_IPC: SOT23-5; ComponentLink1Description: LM397 Datasheet; ComponentLink1URL: http://www.national.com/ds/LM/LM397.pdf; ComponentLink2Description: LM397 Web Page; ComponentLink2URL: http://www.national.com/pf/LM/LM397.html; ComponentLink3Description: MF05A Package Page; ComponentLink3URL: http://www.national.com/packaging/folders/mf05a.html
footprint MF05A_N (SOT23, 5-Leads, Body 2.9x1.6mm, Pitch 0.95mm, Lead Span 2.8mm, IPC Medium Density)
footprint MF05A_L (SOT23, 5-Leads, Body 2.9x1.6mm, Pitch 0.95mm, Lead Span 2.8mm, IPC High Density)
footprint MF05A_M (SOT23, 5-Leads, Body 2.9x1.6mm, Pitch 0.95mm, Lead Span 2.8mm, IPC Low Density)
pins: 1 IN- (in), 2 GND (power), 3 IN+ (in), 4 OUT (out), 5 VS (power)

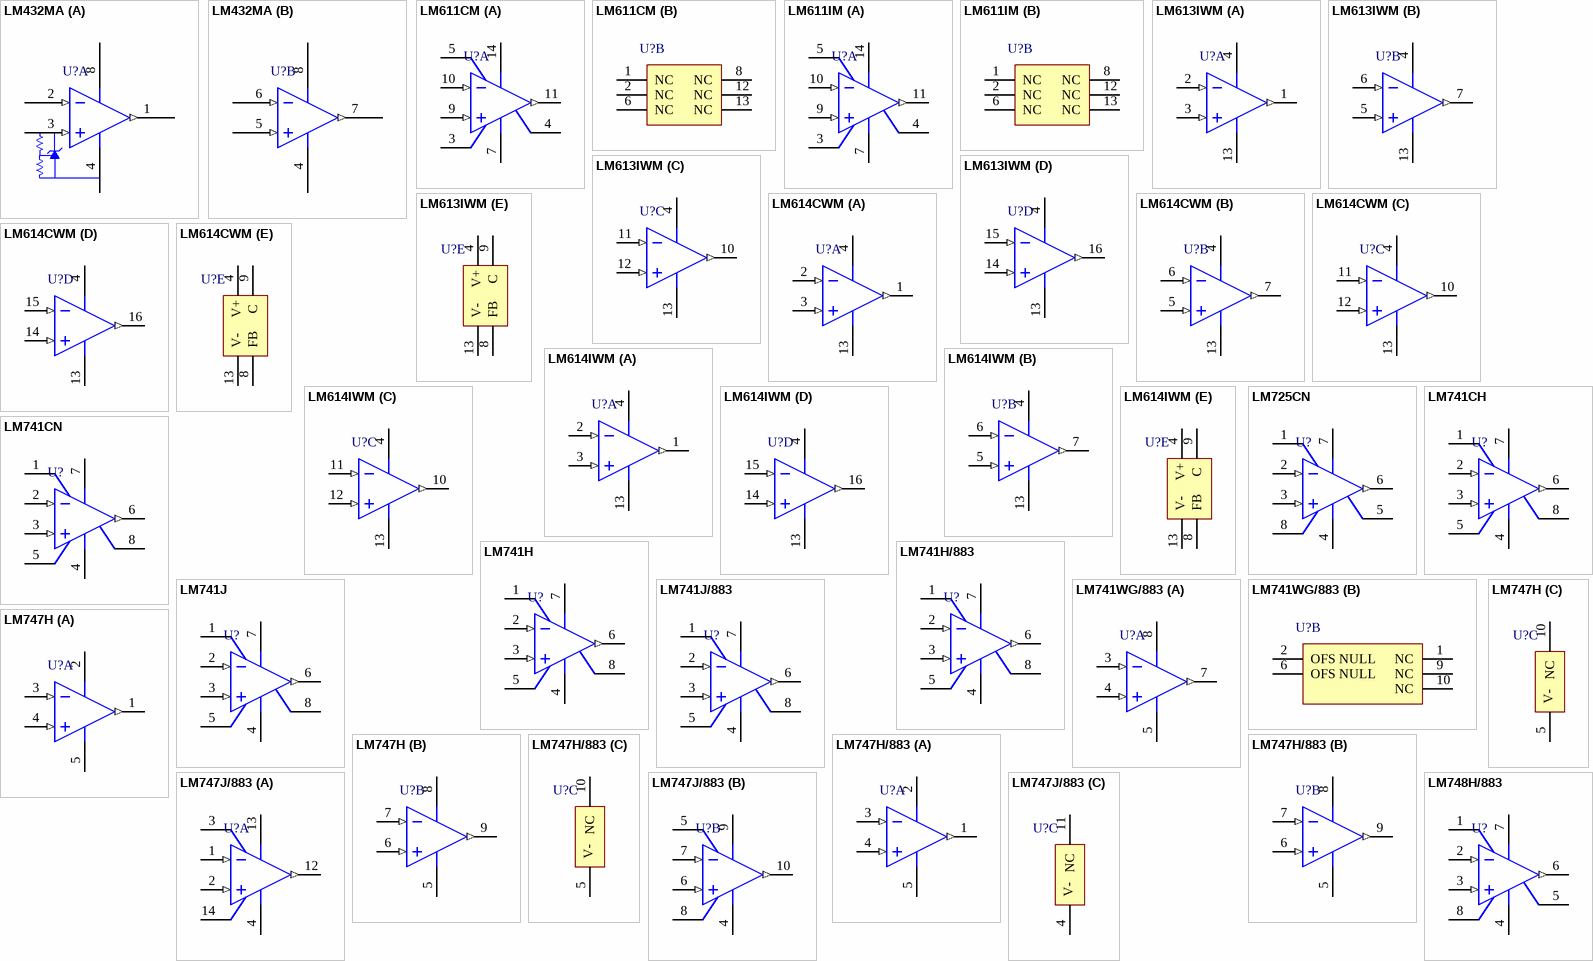
[diagram p13: symbols LM432MA to LM748H/883]

## LM432MA
designator U?
Dual Op Amp with On-Chip Fixed 2.5V Reference; PartNumber: LM432MA; Manufacturer: National Semiconductor; CompType: Amplifiers; PackageTopMarking: NSZXTT*LM432*MA; PowerWise: Y; Published: 4-Dec-2008; LatestRevisionDate: 13-Jan-2009; LatestRevisionNote: Sim Model Added.; DatasheetVersion: Jul-2001; PackageVersion: revL, Sep-2006; PackageReference: M08A; Publisher: Altium Limited; PackageDescription: SOIC Narrow, 4.9 x 3.9 x 1.45mm, 8 Lead, 1.27mm Pitch; RoHS: Y; PinCount: 8; DigiKeyPartNumber: LM432MA-ND; Code_JEDEC: MS-012-AA; Code_IPC: SOIC127P600-8; ComponentLink1Description: LM432 Datasheet; ComponentLink1URL: http://www.national.com/ds/LM/LM432.pdf; ComponentLink2Description: LM432 Web Page; ComponentLink2URL: http://www.national.com/pf/LM/LM432.html; ComponentLink3Description: M08A Package Page; ComponentLink3URL: http://www.national.com/packaging/folders/m08a.html
footprint M08A_N (SOIC, 8-Leads, Body 4.9x3.9mm, Pitch 1.27mm, IPC Medium Density)
footprint M08A_L (SOIC, 8-Leads, Body 4.9x3.9mm, Pitch 1.27mm, IPC High Density)
footprint M08A_M (SOIC, 8-Leads, Body 4.9x3.9mm, Pitch 1.27mm, IPC Low Density)
simulation model LM358 (SUBCKT)
pins on every part: 4 GND (power), 8 VS (power)
part A pins: 1 AOUT (out), 2 AIN- (in), 3 AIN+ (in)
part B pins: 5 BIN+ (in), 6 BIN- (in), 7 BOUT (out)

## LM611CM
designator U?
Operational Amplifier and Adjustable Reference; PartNumber: LM611CM; Manufacturer: National Semiconductor; CompType: Amplifiers; PackageTopMarking: NSUZXYTT*LM611CM; PowerWise: N; Published: 4-Dec-2008; LatestRevisionDate: 13-Jan-2009; LatestRevisionNote: Sim Model Added.; DatasheetVersion: Aug-2000; PackageVersion: revJ, Jan-1996; PackageReference: M14A; Publisher: Altium Limited; PackageDescription: Molded Package S.O., .150in Wide, 14 Lead; RoHS: Y; PinCount: 14; DigiKeyPartNumber: LM611CM-ND; Code_JEDEC: MS-012AB; Code_IPC: SOIC127P600-14; ComponentLink1Description: LM611 Datasheet; ComponentLink1URL: http://www.national.com/ds/LM/LM611.pdf; ComponentLink2Description: LM611 Web Page; ComponentLink2URL: http://www.national.com/pf/LM/LM611.html; ComponentLink3Description: M14A Package Page; ComponentLink3URL: http://www.national.com/packaging/folders/m14a.html
footprint M14A_N (SOIC, 14-Leads, Body 8.6x3.9mm, Pitch 1.27mm, IPC Medium Density)
footprint M14A_L (SOIC, 14-Leads, Body 8.6x3.9mm, Pitch 1.27mm, IPC High Density)
footprint M14A_M (SOIC, 14-Leads, Body 8.6x3.9mm, Pitch 1.27mm, IPC Low Density)
simulation model LM324 (SUBCKT)
part A pins: 3 A, 4 FB, 5 C, 7 V- (power), 9 IN+ (in), 10 IN- (in), 11 OUT (out), 14 V+ (power)
part B pins: 1 NC, 2 NC, 6 NC, 8 NC, 12 NC, 13 NC

## LM611IM
designator U?
Operational Amplifier and Adjustable Reference; PartNumber: LM611IM; Manufacturer: National Semiconductor; CompType: Amplifiers; PackageTopMarking: NSUZXYTT*LM611IM; PowerWise: N; Published: 4-Dec-2008; LatestRevisionDate: 13-Jan-2009; LatestRevisionNote: Sim Model Added.; DatasheetVersion: Aug-2000; PackageVersion: revJ, Jan-1996; PackageReference: M14A; Publisher: Altium Limited; PackageDescription: Molded Package S.O., .150in Wide, 14 Lead; RoHS: Y; PinCount: 14; DigiKeyPartNumber: LM611IM-ND; Code_JEDEC: MS-012AB; Code_IPC: SOIC127P600-14; ComponentLink1Description: LM611 Datasheet; ComponentLink1URL: http://www.national.com/ds/LM/LM611.pdf; ComponentLink2Description: LM611 Web Page; ComponentLink2URL: http://www.national.com/pf/LM/LM611.html; ComponentLink3Description: M14A Package Page; ComponentLink3URL: http://www.national.com/packaging/folders/m14a.html
footprint M14A_N (SOIC, 14-Leads, Body 8.6x3.9mm, Pitch 1.27mm, IPC Medium Density)
footprint M14A_L (SOIC, 14-Leads, Body 8.6x3.9mm, Pitch 1.27mm, IPC High Density)
footprint M14A_M (SOIC, 14-Leads, Body 8.6x3.9mm, Pitch 1.27mm, IPC Low Density)
simulation model LM324 (SUBCKT)
part A pins: 3 A, 4 FB, 5 C, 7 V- (power), 9 IN+ (in), 10 IN- (in), 11 OUT (out), 14 V+ (power)
part B pins: 1 NC, 2 NC, 6 NC, 8 NC, 12 NC, 13 NC

## LM613IWM
designator U?
Dual Operational Amplifier, Dual Comparator and Adjustable Reference; PartNumber: LM613IWM; Manufacturer: National Semiconductor; CompType: Amplifiers; PackageTopMarking: NSUZXYTT*LM613IWM; PowerWise: N; Published: 4-Dec-2008; LatestRevisionDate: 13-Jan-2009; LatestRevisionNote: Sim Model Added.; DatasheetVersion: Aug-2000; PackageVersion: revF, Apr-1990; PackageReference: M16B; Publisher: Altium Limited; PackageDescription: Molded Package, S.O., .300in Wide, 16 Lead; RoHS: O; PinCount: 16; DigiKeyPartNumber: LM613IWM-ND; Code_JEDEC: MS-013-AA; Code_IPC: SOIC127P1030-16; ComponentLink1Description: LM613 Datasheet; ComponentLink1URL: http://www.national.com/ds/LM/LM613.pdf; ComponentLink2Description: LM613 Web Page; ComponentLink2URL: http://www.national.com/pf/LM/LM613.html; ComponentLink3Description: M16B Package Page; ComponentLink3URL: http://www.national.com/packaging/folders/m16b.html
footprint M16B_N (SOIC, 16-Leads, Body 10.3x7.5mm, Pitch 1.27mm, IPC Medium Density)
footprint M16B_L (SOIC, 16-Leads, Body 10.3x7.5mm, Pitch 1.27mm, IPC High Density)
footprint M16B_M (SOIC, 16-Leads, Body 10.3x7.5mm, Pitch 1.27mm, IPC Low Density)
simulation model LM324 (SUBCKT)
pins on every part: 4 V+ (power), 13 V- (power)
part A pins: 1 OUT1 (out), 2 IN1- (in), 3 IN1+ (in)
part B pins: 5 IN2+ (in), 6 IN2- (in), 7 OUT2 (out)
part C pins: 10 OUT3 (out), 11 IN3- (in), 12 IN3+ (in)
part D pins: 14 IN4+ (in), 15 IN4- (in), 16 OUT4 (out)
part E pins: 8 FB, 9 C